# EAGLE library part SWITCH_LED (library mentor-switch)
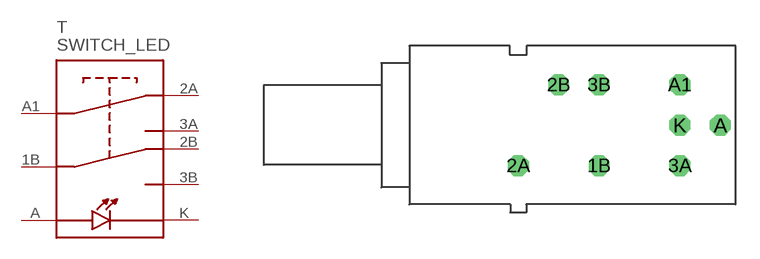
[diagram p0: symbol with the pads of SWITCH_LED; footprint SWITCH_LED]

Designator prefix T

## SWITCH_LED  [SWITCH_LED]
1B  1B  pas
2A  2A  pas
2B  2B  pas
3A  3A  pas
3B  3B  pas
A  A  pas
A1  1A  pas
K  K  pas

## Footprint SWITCH_LED (pad centres in mm)
drill 0.8 octagon: 1B 5.08,-2.54; 2A 0,-2.54; 2B 2.54,2.54; 3A 10.16,-2.54; 3B 5.08,2.54; A 12.7,0; A1 10.16,2.54; K 10.16,0